# EAGLE library part FP6276A (library microcodes)
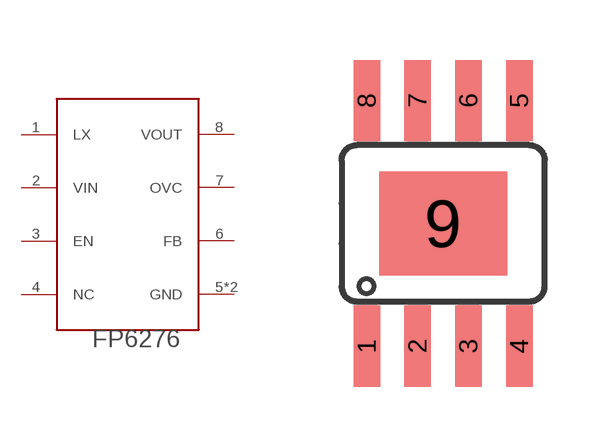
[diagram p10: symbol with the pads of SOP-8LEP; footprint SOP-8LEP]

Designator prefix -

## FP6276A  [SOP-8LEP]
1  LX
2  VIN
3  EN
4  NC
5  GND
6  FB
7  OVC
8  VOUT
9  GND

## Footprint SOP-8LEP (pad centres in mm)
SOIC 150 mil. based on soic8 footprint from the maxim library. I've added the dissipation pad as per datasheet, changed tPlace elements, named the pins and fixed a weird misalignment on the third pin of the bottom row which I suppose it was the designer's signature.
smd 0.66 x 2.032: 1 -1.905,-3.073; 2 -0.635,-3.073; 3 0.635,-3.073; 4 1.905,-3.073; 5 1.905,3.073; 6 0.635,3.073; 7 -0.635,3.073; 8 -1.905,3.073
smd 3.2 x 2.6: 9 0,0